# Altium footprint library Lightsaber PCB Library.PcbLib: 24 footprints (part 1 of 2)
Each footprint in its own frame and in the unit in brackets; x right, y up, seen from the top. Pads: shape width x height; smd on the part's side, far side on the other; paste and mask are expansions set on the pad; w line width, h text height; cw(c..) or ccw(c..) is an arc to the next point about the centre after c.
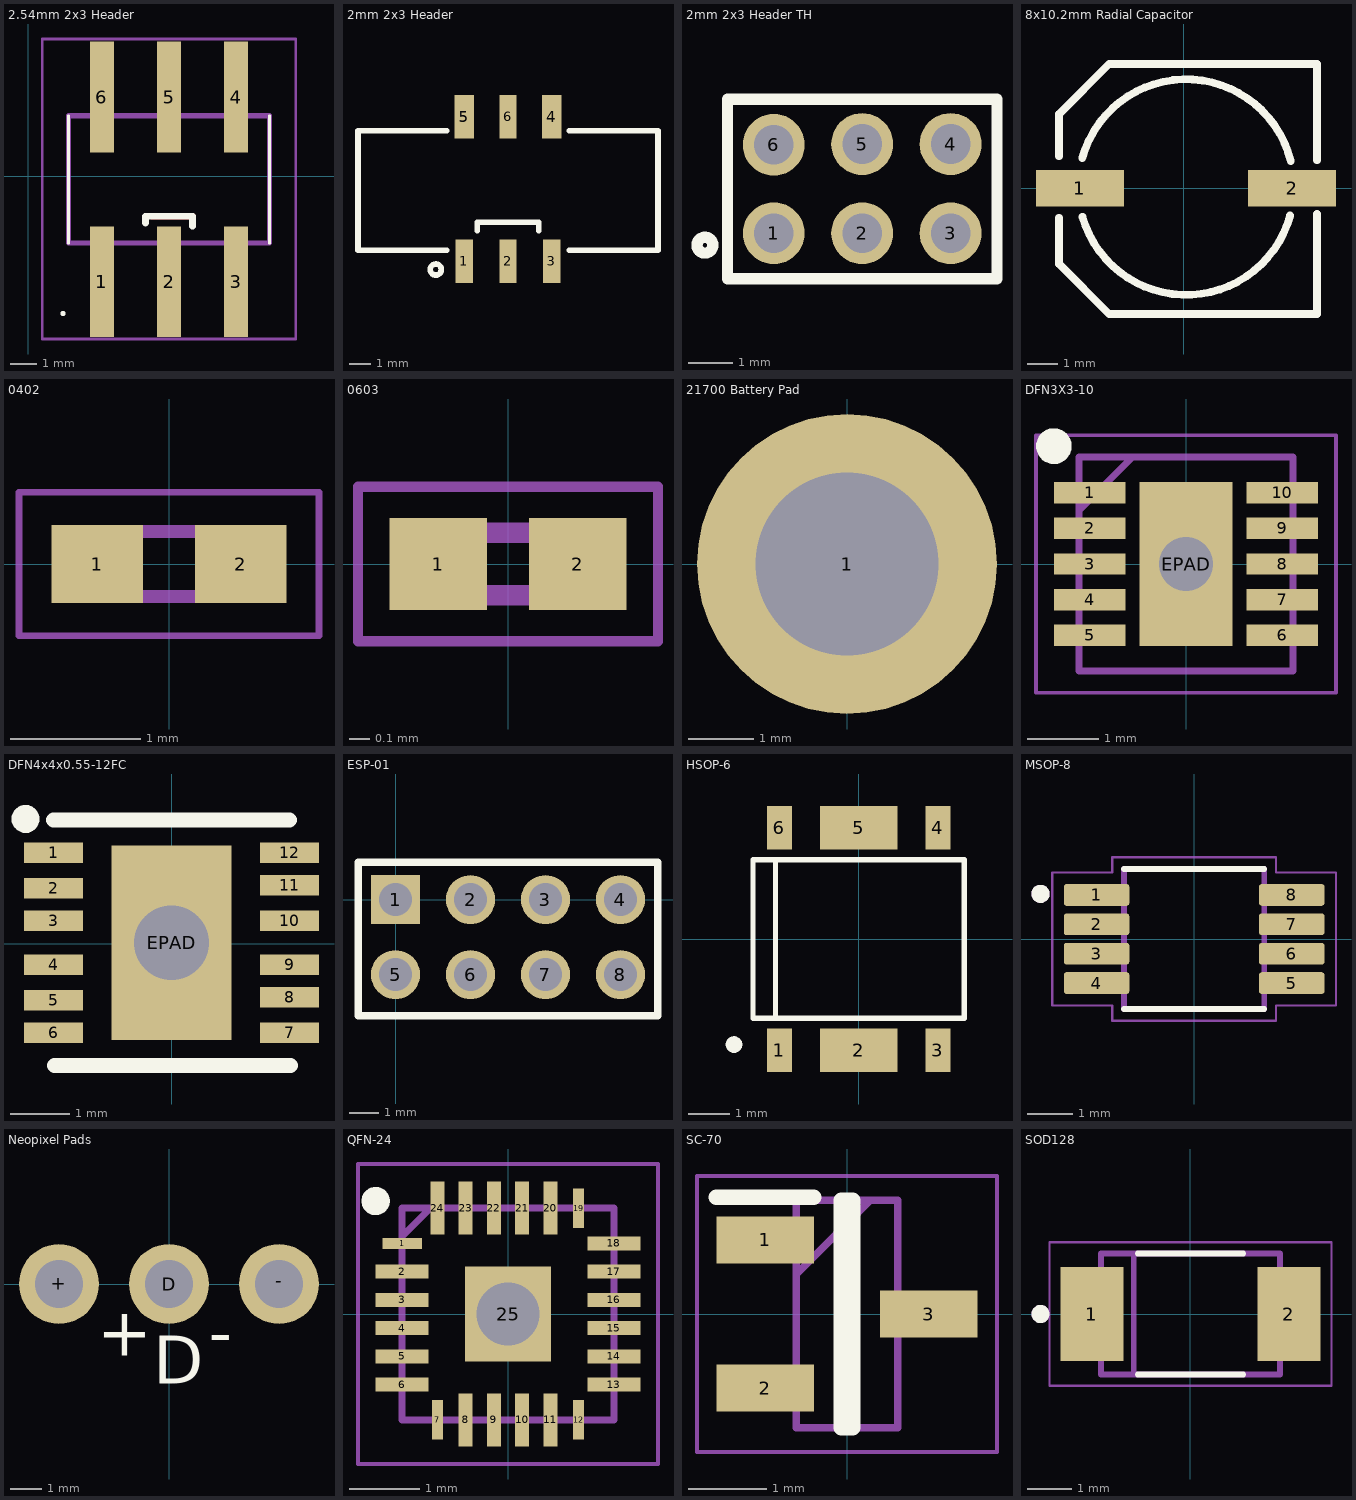
[diagram p0: the footprints below, top view; thin cyan lines are the x and y axes]

## 2.54mm 2x3 Header [mm]
pads (6):
  rect 0.9x4.2 smd: 1(2.794,-4.008) 2(5.334,-4.008) 3(7.874,-4.008) 4(7.874,2.992) 5(5.334,2.992) 6(2.794,2.992)
Top Layer:
  lines w0.254: 4.699,-1.524 5.969,-1.524 6.223,-1.524
Top Overlay:
  lines w0.1: 1.37,-5.209 ccw(c1.32,-5.209) 1.27,-5.207 ccw(c1.32,-5.207) 1.37,-5.207 ; 1.524,-2.542 1.524,2.288 ; 9.144,-2.542 9.144,2.288
  lines w0.254: 4.445,-1.778 4.445,-1.524 6.223,-1.524 6.223,-1.905
Mechanical 13:
  lines w0.2: 1.524,-2.542 1.524,2.288 9.144,2.288 9.144,-2.542 1.524,-2.542
Mechanical 15:
  lines w0.1: 0.524,-6.177 0.524,5.193 10.144,5.193 10.144,-6.177 0.524,-6.177
3D body "54202-G08-03.stp": height 9.95, standoff 0, extent 1.524,-4.701 9.144,3.685

## 2mm 2x3 Header [mm]
pads (6):
  rect 0.8x2 smd: 1(10.7,-16) 2(12.7,-16) 3(14.7,-16) 6(12.7,-9.4)
  rect 0.9x2 smd: 4(14.7,-9.4) 5(10.7,-9.4)
Top Overlay:
  circle w0.254: c9.398,-16.383 r0.254
  lines w0.254: 9.906,-15.494 5.842,-15.494 5.842,-10.033 9.906,-10.033 ; 11.303,-14.605 11.303,-14.224 12.002,-14.224 13.399,-14.224 14.097,-14.224 14.097,-14.605 ; 15.494,-15.494 19.558,-15.494 19.558,-10.033 15.494,-10.033
3D body "55932-0610--3DModel-STEP-194946.STEP": height 9.75, standoff -3.2, extent 4.572,-16.002 20.572,-9.302

## 2mm 2x3 Header TH [mm]
pads (6):
  round 1.4 hole 0.9: 1(10.7,-13.7) 2(12.7,-13.7) 3(14.7,-13.7) 4(14.7,-11.684) 5(12.7,-11.684) 6(10.7,-11.7)
Top Overlay:
  circle w0.254: c9.144,-13.97 r0.18
  lines w0.254: 9.652,-14.732 15.748,-14.732 15.748,-10.668 9.652,-10.668 9.652,-14.732
3D body "2842128-3--3DModel-STEP-1.STEP": height 5.52, standoff -2.78, extent 9.652,-14.732 15.652,-10.732

## 8x10.2mm Radial Capacitor [mm]
pads (2):
  rect 2.901x1.199 smd: 1(-3.43,0.001) 2(3.57,0.001)
Top Overlay:
  lines w0.254: -4.119,-0.975 -4.119,-2.499 -2.468,-4.15 4.39,-4.15 4.39,-0.848 ; -4.119,1.057 -4.119,2.454 -2.468,4.105 4.009,4.105 4.39,4.105 4.39,0.93 ; -3.354,1.001 cw(c0.072,0.041) 3.524,0.904 ; -3.349,-0.936 ccw(c0.072,0.041) 3.505,-0.895
3D body "PanasonicRadialCanSizeE.STEP": height 6.2, standoff -0.05, extent -4.5,-4.15 4.5,4.15

## 0402 [mm]
pads (2):
  rect 0.7x0.6 smd: 1(-0.55,0) 2(0.55,0)
Mechanical 13:
  lines w0.1: -0.5,-0.25 -0.5,0.25 0.5,0.25 0.5,-0.25 -0.5,-0.25
Mechanical 15:
  lines w0.05: -1.15,-0.55 -1.15,0.55 1.15,0.55 1.15,-0.55 -1.15,-0.55
3D body "CPF0402B10K5E1.stp": height 0.35, standoff 0, extent -0.5,-0.25 0.5,0.25

## 0603 [mm]
pads (2):
  rect 0.47x0.44 smd: 1(-0.335,0) 2(0.335,0)
Mechanical 13:
  lines w0.1: -0.3,-0.15 -0.3,0.15 0.3,0.15 0.3,-0.15 -0.3,-0.15
Mechanical 15:
  lines w0.05: -0.72,-0.37 -0.72,0.37 0.72,0.37 0.72,-0.37 -0.72,-0.37
3D body "02013A470JAT2A.stp": height 0.33, standoff 0, extent -0.3,-0.15 0.3,0.15

## 21700 Battery Pad [mil]
pads (1):
  round 180 hole 110: 1(0,0)

## DFN3X3-10 [mm]
pads (11):
  rect 1x0.3 smd: 1(-1.35,1) 2(-1.35,0.5) 3(-1.35,0) 4(-1.35,-0.5) 5(-1.35,-1) 6(1.35,-1) 7(1.35,-0.5) 8(1.35,0) 9(1.35,0.5) 10(1.35,1)
  rect 1.3x2.3 / inner rect 1.3x2.3 / far side oval 1.143x1.397 hole 0.762: EPAD(0,0)
Top Overlay:
  circle w0.25: c-1.85,1.65 r0.125
Mechanical 13:
  lines w0.1: -1.5,0.75 -0.75,1.5 ; -1.5,-1.5 1.5,-1.5 1.5,1.5 -1.5,1.5 -1.5,-1.5
Mechanical 15:
  lines w0.05: -2.1,-1.8 2.1,-1.8 2.1,1.8 -2.1,1.8 -2.1,-1.8
3D body "PAM2308BYMAA.stp": height 0.8, standoff 0, extent -1.55,-1.5 1.55,1.5

## DFN4x4x0.55-12FC [mm]
pads (13):
  rect 1x0.35 smd: 1(-2.002,1.543) 2(-2.002,0.943) 3(-2.002,0.393) 4(-2.002,-0.357) 5(-2.002,-0.957) 6(-2.002,-1.507) 7(1.998,-1.507) 8(1.998,-0.907) 9(1.998,-0.357) 10(1.998,0.393) 11(1.998,0.993) 12(1.998,1.543)
  rect 2.032x3.3 / inner rect 2.032x3.3 / far side round 1.778 hole 1.27: EPAD(-0.002,0.018)
Top Overlay:
  circle w0.254: c-2.48,2.117 r0.11
  lines w0.254: -2.002,2.101 1.998,2.101 ; -1.986,-2.065 2.014,-2.065
3D body "DFN12_L12_4X3_REN.step": height 0.99, standoff 0, extent -1.499,-1.994 1.499,1.994
3D body: height 0.25, standoff 0, extent 3.683,0.381 3.683,0.381
3D body: height 0.25, standoff 0, extent 0,0 0,0
3D body: height 0.25, standoff 0, extent 0,0 0,0

## ESP-01 [mm]
pads (8):
  rect 1.665x1.665 hole 1.11: 1(0,0)
  round 1.665 hole 1.11: 2(2.54,0) 3(5.08,0) 4(7.62,0) 5(0,-2.54) 6(2.54,-2.54) 7(5.08,-2.54) 8(7.62,-2.54)
Top Overlay:
  lines w0.254: -1.27,-3.937 8.89,-3.937 8.89,1.27 -1.27,1.27 -1.27,-3.937
3D body "ESP-01.stp": height 5.66, standoff -1.44, extent -3.89,-4.04 11.51,20.66

## HSOP-6 [mm]
pads (6):
  rect 0.6x1.05 smd: 1(-1.905,-2.675) 3(1.905,-2.675) 4(1.905,2.675) 6(-1.905,2.675)
  rect 1.87x1.05 smd: 2(0,-2.675) 5(0,2.675)
Top Overlay:
  circle w0.2: c-3,-2.54 r0.1
  lines w0.127: -2,-1.905 -2,1.905 ; -2,-1.905 -2.54,-1.905 -2.54,1.905 -2,1.905 ; -2,-1.905 2.54,-1.905 2.54,1.905 -2,1.905
3D body "step_temp.STEP": height 1.66, standoff -0.09, extent -2.51,-3 2.51,3

## MSOP-8 [mm]
pads (8):
  rrect25% 1.45x0.48 smd: 1(-2.16,0.975) 2(-2.16,0.325) 3(-2.16,-0.325) 4(-2.16,-0.975) 5(2.16,-0.975) 6(2.16,-0.325) 7(2.16,0.325) 8(2.16,0.975)
Top Overlay:
  circle w0.2: c-3.4,1 r0.1
  lines w0.127: -1.55,-1.55 1.55,-1.55 ; -1.55,1.55 1.55,1.55
Mechanical 13:
  circle w0.2: c-3.4,1 r0.1
  lines w0.127: -1.55,-1.55 1.55,-1.55 1.55,1.55 -1.55,1.55 -1.55,-1.55
Mechanical 15:
  lines w0.05: -3.14,-1.47 -3.14,1.47 -1.81,1.47 -1.81,1.81 1.81,1.81 1.81,1.47 3.14,1.47 3.14,-1.47 1.81,-1.47 1.81,-1.81 -1.81,-1.81 -1.81,-1.47 -3.14,-1.47
3D body "step_temp.STEP": height 1.03, standoff -0.07, extent -2.45,-1.5 2.45,1.5

## Neopixel Pads [mm]
pads (3):
  round 2.54 hole 1.53: +(-3.5,0) -(3.5,0) D(0,0)
Top Overlay:
  text "+" at -2.286,-2.286 h1.52
  text "-" at 1.27,-2.286 h1.52
  text "D" at -0.508,-3.175 h1.52
3D body "16 AWG Triple Wires v3.step": height 3, standoff -3, extent -5.035,-0.823 4.953,8.443

## QFN-24 [mm]
pads (25):
  rect 0.559x0.152 smd: 1(-1.5,1)
  rect 0.75x0.2 smd: 2(-1.5,0.6) 3(-1.5,0.2) 4(-1.5,-0.2) 5(-1.5,-0.6) 6(-1.5,-1) 13(1.5,-1) 14(1.5,-0.6) 15(1.5,-0.2) 16(1.5,0.2) 17(1.5,0.6) 18(1.5,1)
  rect 0.152x0.559 smd: 7(-1,-1.5) 12(1,-1.5) 19(1,1.5)
  rect 0.2x0.75 smd: 8(-0.6,-1.5) 9(-0.2,-1.5) 10(0.2,-1.5) 11(0.6,-1.5) 20(0.6,1.5) 21(0.2,1.5) 22(-0.2,1.5) 23(-0.6,1.5) 24(-1,1.5)
  rect 1.219x1.346 hole 0.889: 25(0,0)
Top Overlay:
  circle w0.2: c-1.875,1.6 r0.1
Mechanical 13:
  lines w0.1: -1.5,1.1 -1.1,1.5 ; -1.5,-1.5 -1.5,1.5 1.5,1.5 1.5,-1.5 -1.5,-1.5
Mechanical 15:
  lines w0.05: -2.125,-2.125 -2.125,2.125 2.125,2.125 2.125,-2.125 -2.125,-2.125
3D body "MPU-6500.stp": height 0.95, standoff 0, extent -1.55,-1.55 1.55,1.55

## SC-70 [mm]
pads (3):
  rect 1.25x0.6 smd: 1(-1.05,0.95) 2(-1.05,-0.95) 3(1.05,0)
Top Overlay:
  lines w0.2: -1.675,1.5 -0.425,1.5 ; -0.075,-1.46 0.075,-1.46 0.075,1.46 -0.075,1.46 -0.075,-1.46
Mechanical 13:
  lines w0.1: -0.65,0.51 0.3,1.46 ; -0.65,-1.46 0.65,-1.46 0.65,1.46 -0.65,1.46 -0.65,-1.46
Mechanical 15:
  lines w0.05: -1.925,-1.77 1.925,-1.77 1.925,1.77 -1.925,1.77 -1.925,-1.77
3D body "LM4041CIM3-ADJ_NOPB.stp": height 1.12, standoff 0, extent -1.185,-1.46 1.185,1.46

## SOD128 [mm]
pads (2):
  rect 1.4x2.1 smd paste-2: 1(-2.2,0) 2(2.2,0)
Top Overlay:
  circle w0.2: c-3.35,0 r0.1
  lines w0.127: -1.18,-1.35 1.18,-1.35 ; -1.18,1.35 1.18,1.35
Mechanical 13:
  circle w0.2: c-3.35,0 r0.1
  lines w0.127: -1.27,-1.27 -1.27,1.27 ; -2,-1.35 -2,1.35 2,1.35 2,-1.35 -2,-1.35
Mechanical 15:
  lines w0.05: -3.15,-1.6 -3.15,1.6 3.15,1.6 3.15,-1.6 -3.15,-1.6
3D body "step_temp.STEP": height 1.1, standoff 0, extent -2.35,-1.25 2.35,1.25